# EAGLE library part 4_ARRAY (library res)
RES ARRAY 4 RES
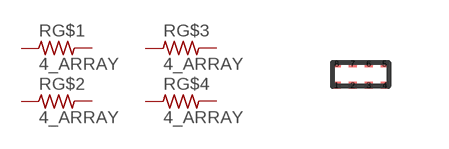
[diagram p1: symbol with the pads of EXB18V_0201X4; footprint EXB18V_0201X4]

Designator prefix R; gates G$1=RES G$2=RES G$3=RES G$4=RES

## 4_ARRAY10K.0.031.5% (DIGIKEY: Y6103CT-ND; MPN: EXB-18V103JX; PWR: 0.031; SIZE: 0502; TOL: 5%; VALUE: 10K)  [EXB18V_0201X4]
1  G$1:1  pas
2  G$2:1  pas
3  G$3:1  pas
4  G$4:1  pas
5  G$4:2  pas
6  G$3:2  pas
7  G$2:2  pas
8  G$1:2  pas

## Footprint EXB18V_0201X4 (pad centres in mm)
smd 0.2 x 0.18: 1 -0.6,-0.27; 2 -0.2,-0.27; 3 0.2,-0.27; 4 0.6,-0.27; 5 0.6,0.27; 6 0.2,0.27; 7 -0.2,0.27; 8 -0.6,0.27